# Altium schematic symbol library Hall Effect Sensor Panel Lib.SchLib: 7 symbols
Pins are listed as number, name and electrical type; pins without a type are passive.

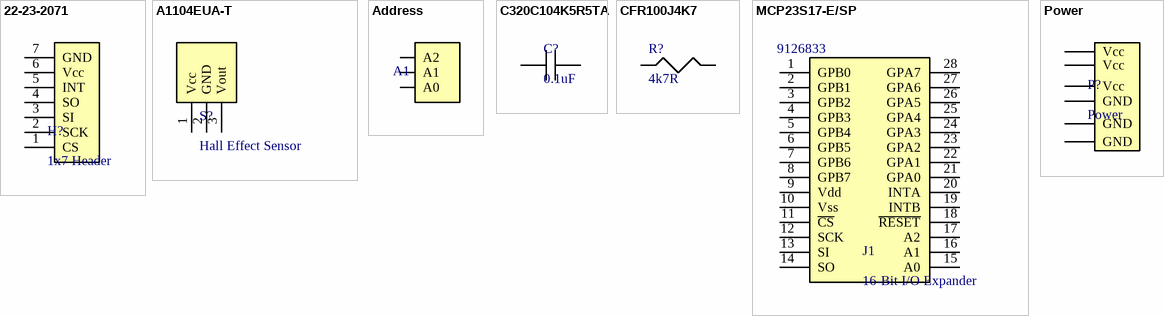
[diagram p0: symbols 22-23-2071 to Power]

## 22-23-2071
designator H?, comment 1x7 Header
CONN HEADER VERT 7POS 2.54MM; Manufacturer: Molex; Number of Contacts: 7; Contact Resistance: 10mR; Gender: Male; Max Voltage Rating (AC): 250V; Current Rating: 4A; Max Current Rating: 10A; Insulation Resistance: 500GR; Approvals: UL,CSA; Glow Wire Compliant: Non-compliant; Supplier 1: RSComponents; Manufacturer Part Number: 22-23-2071; RoHS: Yes; Category: Headers and Wire Housings; Stock 1: 4279; Pricing 1: 10=0.34600 (USD); Mount: Through Hole,Cable; Contact Plating: Tin,Copper; Contact Material: Brass; Color: White; Housing Color: White; Housing Material: Nylon; Min Operating Temperature: 0°C; Max Operating Temperature: 75°C; Termination: Through Hole; Number of Rows: 1; Packaging: Bulk; Orientation: Straight; Number of Positions: 7; Series: 6373; Package Quantity: 4000; Voltage Rating: 250V; Contact Gender: Male; Voltage Rating (DC): 250V; Number of Circuits: 7; Height: 4.5mm; Pitch: 2.54mm; Depth: 3.56mm; Radiation Hardening: No; RoHS Compliant: Yes; REACH SVHC: Unknown; Halogen Free: Low Halogen; Lead Free: Lead Free; Flammability Rating: UL94 V-0; ComponentLink1URL: https://datasheet.ciiva.com/30052/39000022232071-pcb-headers-30052246.pdf?src-supplier=Onlinecomponents.com; ComponentLink1Description: https://datasheet.ciiva.com/30052/39000022232071-pcb-headers-30052246.pdf?src-supplier=Onlinecomponents.com; ComponentLink2URL: https://datasheet.ciiva.com/7839/1575011-7839927.pdf?src-supplier=Element14; ComponentLink2Description: https://datasheet.ciiva.com/7839/1575011-7839927.pdf?src-supplier=Element14; ComponentLink3URL: https://datasheet.ciiva.com/5154/0022232071-pcb-headers-227102-5154393.pdf?src-supplier=Mouser; ComponentLink3Description: https://datasheet.ciiva.com/5154/0022232071-pcb-headers-227102-5154393.pdf?src-supplier=Mouser; ComponentLink4URL: https://datasheet.ciiva.com/11749/0900766b80d8f4d1-11749289.pdf?src-supplier=RSComponents; ComponentLink4Description: https://datasheet.ciiva.com/11749/0900766b80d8f4d1-11749289.pdf?src-supplier=RSComponents; ComponentLink5URL: https://datasheet.ciiva.com/19462/1966270-19462253.pdf?src-supplier=Jameco; ComponentLink5Description: https://datasheet.ciiva.com/19462/1966270-19462253.pdf?src-supplier=Jameco; ComponentLink6URL: https://datasheet.ciiva.com/49273/232311-49273642.pdf?src-supplier=Jameco; ComponentLink6Description: https://datasheet.ciiva.com/49273/232311-49273642.pdf?src-supplier=Jameco; ComponentLink7URL: https://datasheet.ciiva.com/16725/0022232071-pcb-headers-16725645.pdf?src-supplier=Avnet+Europe; ComponentLink7Description: https://datasheet.ciiva.com/16725/0022232071-pcb-headers-16725645.pdf?src-supplier=Avnet+Europe; ComponentLink8URL: https://datasheet.ciiva.com/10087/0022232071-pcb-headers-10087214.pdf?src-supplier=Avnet; ComponentLink8Description: https://datasheet.ciiva.com/10087/0022232071-pcb-headers-10087214.pdf?src-supplier=Avnet; Supplier Part Number 1: 6795603P
footprint PCB Header
pins: 1 CS, 2 SCK, 3 SI, 4 SO, 5 INT, 6 Vcc, 7 GND

## A1104EUA-T
designator S?, comment Hall Effect Sensor
ALLEGRO MICROSYSTEMS - A1104EUA-T - IC, HALL-EFFECT SWITCH SIP-3; Output Current: 25mA; Max Supply Current: 7.5mA; Min Supply Voltage: 3.8V; Max Supply Voltage: 24V; Output Type: Digital; Supplier 1: RSComponents; Manufacturer: Allegro MicroSystems; Manufacturer Part Number: A1104EUA-T; RoHS: Yes; Category: Magnetic Sensors; Stock 1: 245; Pricing 1: 5=1.09300, 25=0.90800, 100=0.76300, 250=0.71200, 500=0.67100 (USD); Mount: Through Hole; Case/Package: SIP; Number of Pins: 3; Min Operating Temperature: -40°C; Max Operating Temperature: 85°C; Packaging: Bulk; Package Quantity: 4000; Operating Supply Current: 7.5mA; Max Output Current: 25mA; Type: Unipolar Switch; Length: 4.09mm; Width: 1.52mm; Height: 3.02mm; Radiation Hardening: No; REACH SVHC: No SVHC; Lead Free: Lead Free; RoHS Compliant: Yes; ComponentLink1URL: https://datasheet.ciiva.com/15099/getdatasheetpartid-305695-15099469.pdf?src-supplier=Verical; ComponentLink1Description: https://datasheet.ciiva.com/15099/getdatasheetpartid-305695-15099469.pdf?src-supplier=Verical; ComponentLink2URL: https://datasheet.ciiva.com/1173/1697218-1173986.pdf?src-supplier=Newark; ComponentLink2Description: https://datasheet.ciiva.com/1173/1697218-1173986.pdf?src-supplier=Newark; ComponentLink3URL: https://datasheet.ciiva.com/3272/a110x-datasheet-3272173.pdf?src-supplier=Avnet; ComponentLink3Description: https://datasheet.ciiva.com/3272/a110x-datasheet-3272173.pdf?src-supplier=Avnet; Supplier Part Number 1: 6807488
footprint A1104EUA-T
pins: 1 Vcc, 2 GND, 3 Vout

## Address
designator A1
footprint Address
pins: 1 A0, 2 A1, 3 A2

## C320C104K5R5TA
designator C?, comment 0.1uF
KEMET - C320C104K5R5TA - Multilayer Ceramic Capacitor, Gold Max, 0.1 µF, 50 V, Goldmax, 300 Series, ± 10%, Radial Leaded; Capacitance: 100nF; Dielectric: X7R; Voltage Rating: 50V; Lead/Base Style: Straight; Dissipation Factor: 2.5%; Lead Diameter: 0.51mm; Lead Length: 7mm; Supplier 1: RSComponents; Manufacturer: KEMET; Manufacturer Part Number: C320C104K5R5TA; RoHS: Yes; Category: Ceramic Capacitors; Mount: Through Hole,PCB; Case/Package: Radial; Number of Pins: 2; Dielectric Material: Ceramic; Min Operating Temperature: -55°C; Max Operating Temperature: 125°C; Tolerance: 10%; Packaging: Bulk; Termination: Radial; Voltage Rating (DC): 50V; Package Quantity: 500; Resistor Type: Ceramic; Voltage: 50V; Length: 5.08mm; Width: 0.125inch; Height: 3.18mm; Lead Pitch: 2.54mm; Depth: 3.18mm; Height - Seated (Max): 0.26inch; Radiation Hardening: No; RoHS Compliant: Yes; REACH SVHC: No SVHC; Lead Free: Lead Free; ComponentLink1URL: https://datasheet.ciiva.com/27052/1570161-27052544.pdf?src-supplier=Jameco; ComponentLink1Description: https://datasheet.ciiva.com/27052/1570161-27052544.pdf?src-supplier=Jameco; ComponentLink2URL: https://datasheet.ciiva.com/39122/f3101-goldmax-39122993.pdf?src-supplier=Onlinecomponents.com; ComponentLink2Description: https://datasheet.ciiva.com/39122/f3101-goldmax-39122993.pdf?src-supplier=Onlinecomponents.com; ComponentLink3URL: https://datasheet.ciiva.com/11786/0900766b80717e24-11786584.pdf?src-supplier=RSComponents; ComponentLink3Description: https://datasheet.ciiva.com/11786/0900766b80717e24-11786584.pdf?src-supplier=RSComponents; ComponentLink4URL: https://datasheet.ciiva.com/7817/1732702-7817354.pdf?src-supplier=Element14; ComponentLink4Description: https://datasheet.ciiva.com/7817/1732702-7817354.pdf?src-supplier=Element14; ComponentLink5URL: https://datasheet.ciiva.com/16624/datasheetpn-c320c104k5r5ca-16624750.pdf?src-supplier=Avnet+Europe; ComponentLink5Description: https://datasheet.ciiva.com/16624/datasheetpn-c320c104k5r5ca-16624750.pdf?src-supplier=Avnet+Europe; ComponentLink6URL: https://datasheet.ciiva.com/7817/f3101-goldmax-7817514.pdf?src-supplier=Element14; ComponentLink6Description: https://datasheet.ciiva.com/7817/f3101-goldmax-7817514.pdf?src-supplier=Element14; ComponentLink7URL: https://datasheet.ciiva.com/14585/70095037-14585005.pdf?src-supplier=Allied+Electronics; ComponentLink7Description: https://datasheet.ciiva.com/14585/70095037-14585005.pdf?src-supplier=Allied+Electronics; ComponentLink8URL: https://datasheet.ciiva.com/5389/f3101-goldmax-334604-5389886.pdf?src-supplier=Mouser; ComponentLink8Description: https://datasheet.ciiva.com/5389/f3101-goldmax-334604-5389886.pdf?src-supplier=Mouser; Supplier Part Number 1: 1466304
footprint C320C104K5R5TA
pins: 1 48, 2

## CFR100J4K7
designator R?, comment 4k7R
TE CONNECTIVITY         CFR100J4K7             Through Hole Resistor, 4.7 kohm, 500 V, Axial Leaded, 1 W,  5%, CFR Series; Temperature Coefficient: 0ppm/°C; Resistance: 4.7kR; Power Rating: 1W; Number of Resistors: 1; Voltage Rating: 500V; Supplier 1: RSComponents; Manufacturer: TE Connectivity; Manufacturer Part Number: CFR100J4K7; RoHS: Yes; Category: Through-Hole Resistors; Stock 1: 2440; Pricing 1: 10=0.11800, 100=0.10100, 250=0.08900, 500=0.07500, 1000=0.06400 (USD); Mount: Axial; Case/Package: Conformal; Min Operating Temperature: -55°C; Max Operating Temperature: 155°C; Number of Terminations: 2; Termination: Axial; Packaging: Ammo Pack; Resistor Type: Thin Film; Tolerance: 5%; Voltage Rating (DC): 500V; Diameter: 5mm; Length: 12mm; REACH SVHC: No SVHC; ELV: Compliant; ComponentLink1URL: https://datasheet.ciiva.com/11823/0900766b80098b49-11823401.pdf?src-supplier=RSComponents; ComponentLink1Description: https://datasheet.ciiva.com/11823/0900766b80098b49-11823401.pdf?src-supplier=RSComponents; ComponentLink2URL: https://datasheet.ciiva.com/22664/1723854-22664921.pdf?src-supplier=Element14; ComponentLink2Description: https://datasheet.ciiva.com/22664/1723854-22664921.pdf?src-supplier=Element14; ComponentLink3URL: https://datasheet.ciiva.com/16773/70063023-16773435.pdf?src-supplier=Allied+Electronics; ComponentLink3Description: https://datasheet.ciiva.com/16773/70063023-16773435.pdf?src-supplier=Allied+Electronics; Supplier Part Number 1: 0131873
footprint CFR100J4K7
pins: 1, 2

## MCP23S17-E/SP
designator J1, comment 16-Bit I/O Expander  Supplier Part Number 1: 9126833
TE CONNECTIVITY         CFR100J4K7             Through Hole Resistor, 4.7 kohm, 500 V, Axial Leaded, 1 W,  5%, CFR Series; Manufacturer: Microchip; Manufacturer Part Number: MCP23S17-E/SP; Interface: SPI,Serial; Nominal Supply Current: 1mA; Number of Channels: 1; Min Supply Voltage: 1.8V; Max Supply Voltage: 5.5V; Number of I/Os: 16; Frequency: 10MHz; Temperature Coefficient: 0ppm/°C; Resistance: 4.7kR; Power Rating: 1W; Voltage Rating: 500V; RoHS: Yes; Category: Interface ICs; Stock 1: 210; Pricing 1: 15=1.29300, 30=1.22600, 105=1.10500 (USD); Mount: Through Hole,Surface Mount; Case/Package: PDIP; Number of Pins: 28; Min Operating Temperature: -40°C; Max Operating Temperature: 125°C; Packaging: Rail/Tube; Max Frequency: 10MHz; Number of Bits: 16; Supply Voltage-Nom: 5.5V; Supply Current: 1mA; REACH SVHC: No SVHC; Lead Free: Lead Free; RoHS Compliant: Yes; ComponentLink1URL: https://datasheet.ciiva.com/12096/21952b-70868-12096976.pdf?src-supplier=Mouser; ComponentLink1Description: https://datasheet.ciiva.com/12096/21952b-70868-12096976.pdf?src-supplier=Mouser; ComponentLink2URL: https://datasheet.ciiva.com/1780/21952b-1780558.pdf?src-supplier=Digi-Key; ComponentLink2Description: https://datasheet.ciiva.com/1780/21952b-1780558.pdf?src-supplier=Digi-Key; ComponentLink3URL: https://datasheet.ciiva.com/1495/12179-1495925.pdf?src-supplier=Element14; ComponentLink3Description: https://datasheet.ciiva.com/1495/12179-1495925.pdf?src-supplier=Element14; ComponentLink4URL: https://datasheet.ciiva.com/1496/12179-1496067.pdf?src-supplier=Element14; ComponentLink4Description: https://datasheet.ciiva.com/1496/12179-1496067.pdf?src-supplier=Element14; ComponentLink5URL: https://datasheet.ciiva.com/16331/filehandler-aspxddocname-en023709-16331287.pdf?src-supplier=Future+Electronics; ComponentLink5Description: https://datasheet.ciiva.com/16331/filehandler-aspxddocname-en023709-16331287.pdf?src-supplier=Future+Electronics; ComponentLink6URL: https://datasheet.ciiva.com/16617/21952b-16617642.pdf?src-supplier=Avnet+Europe; ComponentLink6Description: https://datasheet.ciiva.com/16617/21952b-16617642.pdf?src-supplier=Avnet+Europe; ComponentLink7URL: https://datasheet.ciiva.com/18405/70046137-18405548.pdf?src-supplier=Allied+Electronics; ComponentLink7Description: https://datasheet.ciiva.com/18405/70046137-18405548.pdf?src-supplier=Allied+Electronics; ComponentLink8URL: https://datasheet.ciiva.com/29305/651444-da-01-en-ic-i-o-exp-mcp23s17-e-sp-spdip-28-mcp-29305148.pdf?src-supplier=Conrad; ComponentLink8Description: https://datasheet.ciiva.com/29305/651444-da-01-en-ic-i-o-exp-mcp23s17-e-sp-spdip-28-mcp-29305148.pdf?src-supplier=Conrad; Stock 2: 2440; Pricing 2: 10=0.11800, 100=0.10100, 250=0.08900, 500=0.07500, 1000=0.06400 (USD); Number of Terminations: 2; Termination: Axial; Resistor Type: Thin Film; Tolerance: 5%; Number of Resistors: 1; Voltage Rating (DC): 500V; Diameter: 5mm; Length: 12mm; ELV: Compliant; ComponentLink9URL: https://datasheet.ciiva.com/11823/0900766b80098b49-11823401.pdf?src-supplier=RSComponents; ComponentLink9Description: https://datasheet.ciiva.com/11823/0900766b80098b49-11823401.pdf?src-supplier=RSComponents; ComponentLink10URL: https://datasheet.ciiva.com/22664/1723854-22664921.pdf?src-supplier=Element14; ComponentLink10Description: https://datasheet.ciiva.com/22664/1723854-22664921.pdf?src-supplier=Element14; ComponentLink11URL: https://datasheet.ciiva.com/16773/70063023-16773435.pdf?src-supplier=Allied+Electronics; ComponentLink11Description: https://datasheet.ciiva.com/16773/70063023-16773435.pdf?src-supplier=Allied+Electronics; Supplier 1: RSComponents
footprint MCP23S17-E/SP
pins: 1 GPB0, 2 GPB1, 3 GPB2, 4 GPB3, 5 GPB4, 6 GPB5, 7 GPB6, 8 GPB7, 9 Vdd, 10 Vss, 11 ~{CS}, 12 SCK, 13 SI, 14 SO, 15 A0, 16 A1, 17 A2, 18 ~{RESET}, 19 INTB, 20 INTA, 21 GPA0, 22 GPA1, 23 GPA2, 24 GPA3, 25 GPA4, 26 GPA5, 27 GPA6, 28 GPA7

## Power
designator P?
footprint Power
pins: 1 Vcc, 2 Vcc, 3 Vcc, 4 GND, 5 GND, 6 GND